# Altium schematic symbol library Conn Breakaway Single Row.SchLib: 40 symbols
Pins are listed as number, name and electrical type; pins without a type are passive.

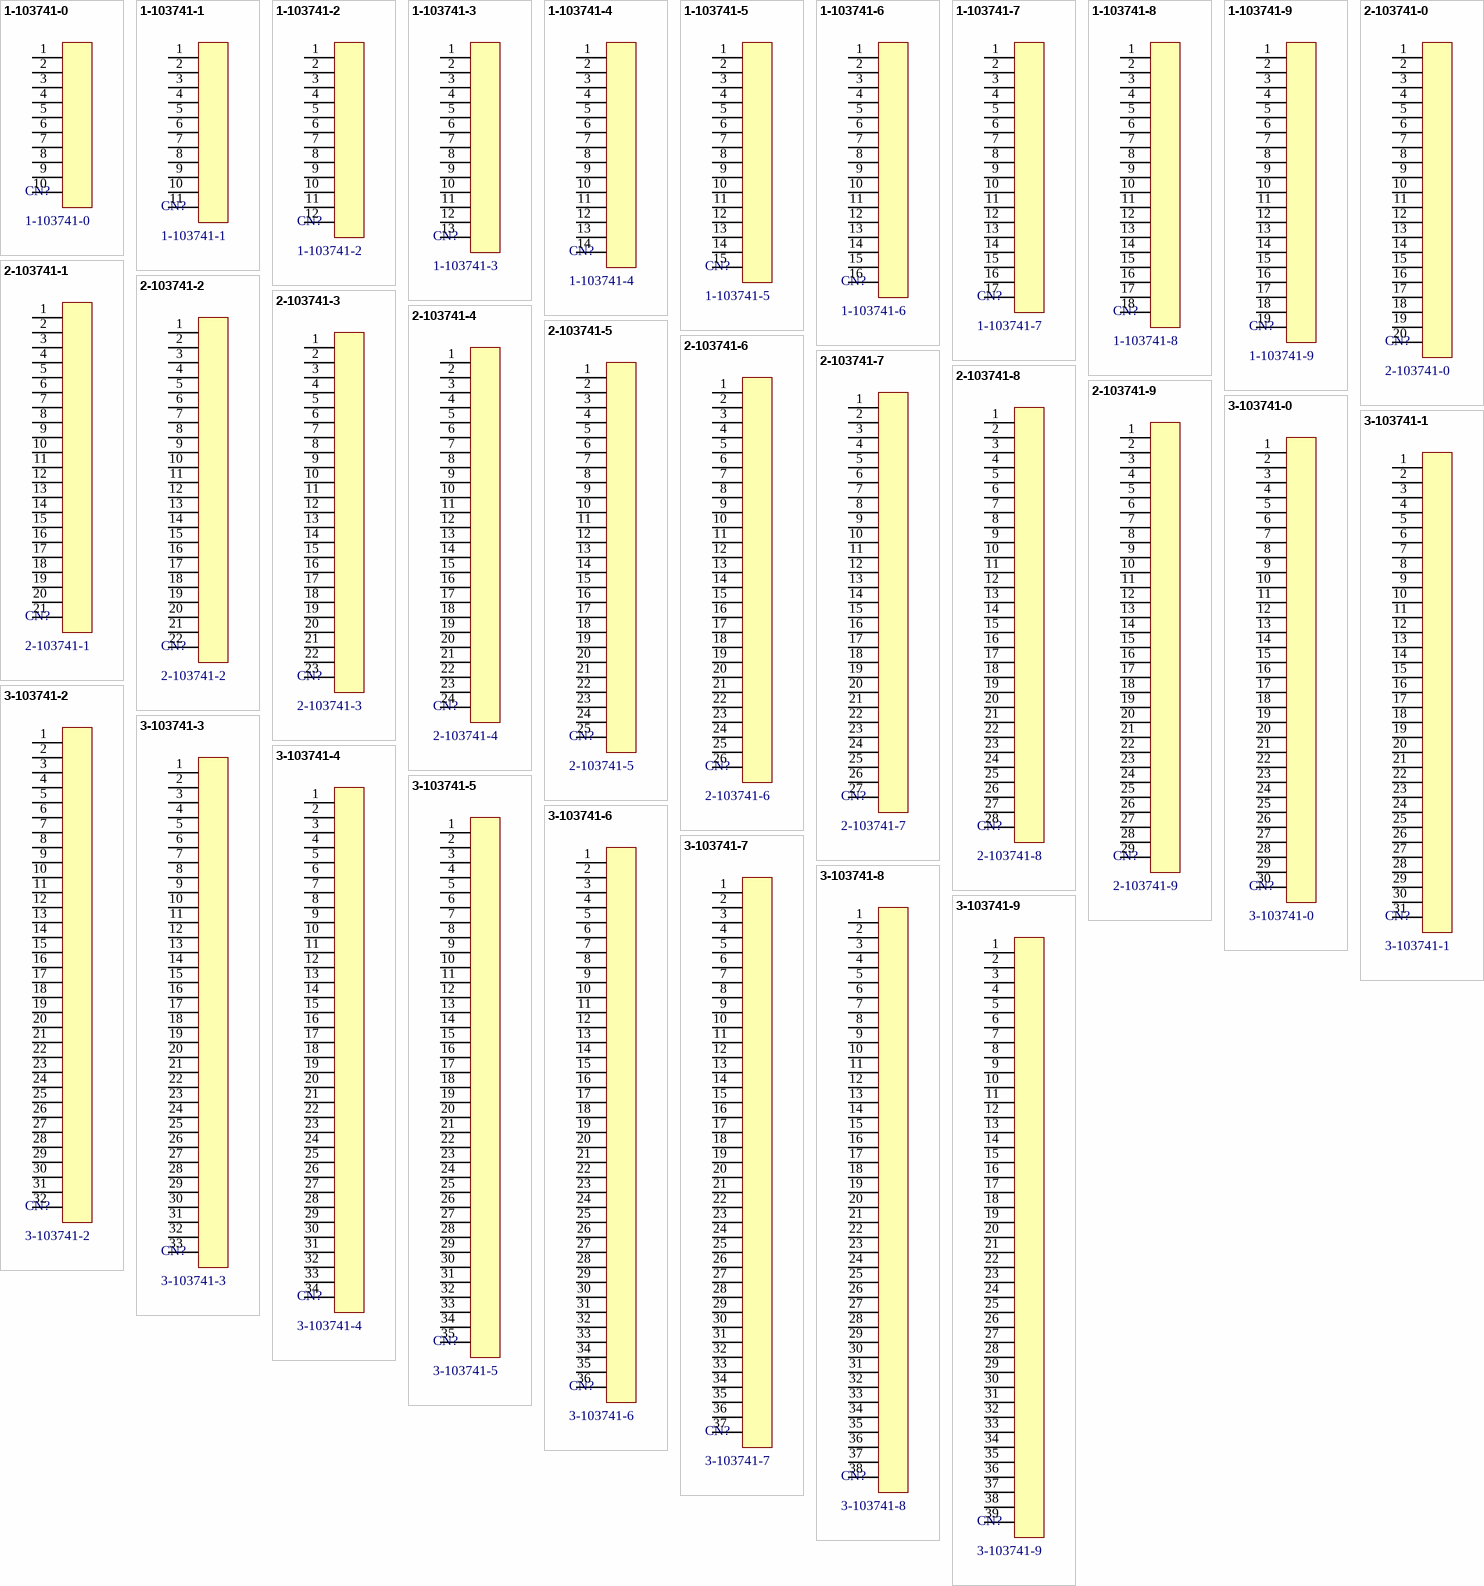
[diagram p0: symbols 1-103741-0 to 3-103741-9]

## 1-103741-0
designator CN?
CONN Breakaway Single Row
footprint 1-103741-0 (CONN Breakaway Single Row)
pins: 1, 2, 3, 4, 5, 6, 7, 8, 9, 10

## 1-103741-1
designator CN?
CONN Breakaway Single Row
footprint 1-103741-1 (CONN Breakaway Single Row)
pins: 1, 2, 3, 4, 5, 6, 7, 8, 9, 10, 11

## 1-103741-2
designator CN?
CONN Breakaway Single Row
footprint 1-103741-2 (CONN Breakaway Single Row)
pins: 1, 2, 3, 4, 5, 6, 7, 8, 9, 10, 11, 12

## 1-103741-3
designator CN?
CONN Breakaway Single Row
footprint 1-103741-3 (CONN Breakaway Single Row)
pins: 1, 2, 3, 4, 5, 6, 7, 8, 9, 10, 11, 12, 13

## 1-103741-4
designator CN?
CONN Breakaway Single Row
footprint 1-103741-4 (CONN Breakaway Single Row)
pins: 1, 2, 3, 4, 5, 6, 7, 8, 9, 10, 11, 12, 13, 14

## 1-103741-5
designator CN?
CONN Breakaway Single Row
footprint 1-103741-5 (CONN Breakaway Single Row)
pins: 1, 2, 3, 4, 5, 6, 7, 8, 9, 10, 11, 12, 13, 14, 15

## 1-103741-6
designator CN?
CONN Breakaway Single Row
footprint 1-103741-6 (CONN Breakaway Single Row)
pins: 1, 2, 3, 4, 5, 6, 7, 8, 9, 10, 11, 12, 13, 14, 15, 16

## 1-103741-7
designator CN?
CONN Breakaway Single Row
footprint 1-103741-7 (CONN Breakaway Single Row)
pins: 1, 2, 3, 4, 5, 6, 7, 8, 9, 10, 11, 12, 13, 14, 15, 16, 17

## 1-103741-8
designator CN?
CONN Breakaway Single Row
footprint 1-103741-8 (CONN Breakaway Single Row)
pins: 1, 2, 3, 4, 5, 6, 7, 8, 9, 10, 11, 12, 13, 14, 15, 16, 17, 18

## 1-103741-9
designator CN?
CONN Breakaway Single Row
footprint 1-103741-9 (CONN Breakaway Single Row)
pins: 1, 2, 3, 4, 5, 6, 7, 8, 9, 10, 11, 12, 13, 14, 15, 16, 17, 18, 19

## 2-103741-0
designator CN?
CONN Breakaway Single Row
footprint 2-103741-0 (CONN Breakaway Single Row)
pins: 1, 2, 3, 4, 5, 6, 7, 8, 9, 10, 11, 12, 13, 14, 15, 16, 17, 18, 19, 20

## 2-103741-1
designator CN?
CONN Breakaway Single Row
footprint 2-103741-1 (CONN Breakaway Single Row)
pins: 1, 2, 3, 4, 5, 6, 7, 8, 9, 10, 11, 12, 13, 14, 15, 16, 17, 18, 19, 20, 21

## 2-103741-2
designator CN?
CONN Breakaway Single Row
footprint 2-103741-2 (CONN Breakaway Single Row)
pins: 1, 2, 3, 4, 5, 6, 7, 8, 9, 10, 11, 12, 13, 14, 15, 16, 17, 18, 19, 20, 21, 22

## 2-103741-3
designator CN?
CONN Breakaway Single Row
footprint 2-103741-3 (CONN Breakaway Single Row)
pins: 1, 2, 3, 4, 5, 6, 7, 8, 9, 10, 11, 12, 13, 14, 15, 16, 17, 18, 19, 20, 21, 22, 23

## 2-103741-4
designator CN?
CONN Breakaway Single Row
footprint 2-103741-4 (CONN Breakaway Single Row)
pins: 1, 2, 3, 4, 5, 6, 7, 8, 9, 10, 11, 12, 13, 14, 15, 16, 17, 18, 19, 20, 21, 22, 23, 24

## 2-103741-5
designator CN?
CONN Breakaway Single Row
footprint 2-103741-5 (CONN Breakaway Single Row)
pins: 1, 2, 3, 4, 5, 6, 7, 8, 9, 10, 11, 12, 13, 14, 15, 16, 17, 18, 19, 20, 21, 22, 23, 24, 25

## 2-103741-6
designator CN?
CONN Breakaway Single Row
footprint 2-103741-6 (CONN Breakaway Single Row)
pins: 1, 2, 3, 4, 5, 6, 7, 8, 9, 10, 11, 12, 13, 14, 15, 16, 17, 18, 19, 20, 21, 22, 23, 24, 25, 26

## 2-103741-7
designator CN?
CONN Breakaway Single Row
footprint 2-103741-7 (CONN Breakaway Single Row)
pins: 1, 2, 3, 4, 5, 6, 7, 8, 9, 10, 11, 12, 13, 14, 15, 16, 17, 18, 19, 20, 21, 22, 23, 24, 25, 26, 27

## 2-103741-8
designator CN?
CONN Breakaway Single Row
footprint 2-103741-8 (CONN Breakaway Single Row)
pins: 1, 2, 3, 4, 5, 6, 7, 8, 9, 10, 11, 12, 13, 14, 15, 16, 17, 18, 19, 20, 21, 22, 23, 24, 25, 26, 27, 28

## 2-103741-9
designator CN?
CONN Breakaway Single Row
footprint 2-103741-9 (CONN Breakaway Single Row)
pins: 1, 2, 3, 4, 5, 6, 7, 8, 9, 10, 11, 12, 13, 14, 15, 16, 17, 18, 19, 20, 21, 22, 23, 24, 25, 26, 27, 28, 29

## 3-103741-0
designator CN?
CONN Breakaway Single Row
footprint 3-103741-0 (CONN Breakaway Single Row)
pins: 1, 2, 3, 4, 5, 6, 7, 8, 9, 10, 11, 12, 13, 14, 15, 16, 17, 18, 19, 20, 21, 22, 23, 24, 25, 26, 27, 28, 29, 30

## 3-103741-1
designator CN?
CONN Breakaway Single Row
footprint 3-103741-1 (CONN Breakaway Single Row)
pins: 1, 2, 3, 4, 5, 6, 7, 8, 9, 10, 11, 12, 13, 14, 15, 16, 17, 18, 19, 20, 21, 22, 23, 24, 25, 26, 27, 28, 29, 30, 31

## 3-103741-2
designator CN?
CONN Breakaway Single Row
footprint 3-103741-2 (CONN Breakaway Single Row)
pins: 1, 2, 3, 4, 5, 6, 7, 8, 9, 10, 11, 12, 13, 14, 15, 16, 17, 18, 19, 20, 21, 22, 23, 24, 25, 26, 27, 28, 29, 30, 31, 32

## 3-103741-3
designator CN?
CONN Breakaway Single Row
footprint 3-103741-3 (CONN Breakaway Single Row)
pins: 1, 2, 3, 4, 5, 6, 7, 8, 9, 10, 11, 12, 13, 14, 15, 16, 17, 18, 19, 20, 21, 22, 23, 24, 25, 26, 27, 28, 29, 30, 31, 32, 33

## 3-103741-4
designator CN?
CONN Breakaway Single Row
footprint 3-103741-4 (CONN Breakaway Single Row)
pins: 1, 2, 3, 4, 5, 6, 7, 8, 9, 10, 11, 12, 13, 14, 15, 16, 17, 18, 19, 20, 21, 22, 23, 24, 25, 26, 27, 28, 29, 30, 31, 32, 33, 34

## 3-103741-5
designator CN?
CONN Breakaway Single Row
footprint 3-103741-5 (CONN Breakaway Single Row)
pins: 1, 2, 3, 4, 5, 6, 7, 8, 9, 10, 11, 12, 13, 14, 15, 16, 17, 18, 19, 20, 21, 22, 23, 24, 25, 26, 27, 28, 29, 30, 31, 32, 33, 34, 35

## 3-103741-6
designator CN?
CONN Breakaway Single Row
footprint 3-103741-6 (CONN Breakaway Single Row)
pins: 1, 2, 3, 4, 5, 6, 7, 8, 9, 10, 11, 12, 13, 14, 15, 16, 17, 18, 19, 20, 21, 22, 23, 24, 25, 26, 27, 28, 29, 30, 31, 32, 33, 34, 35, 36

## 3-103741-7
designator CN?
CONN Breakaway Single Row
footprint 3-103741-7 (CONN Breakaway Single Row)
pins: 1, 2, 3, 4, 5, 6, 7, 8, 9, 10, 11, 12, 13, 14, 15, 16, 17, 18, 19, 20, 21, 22, 23, 24, 25, 26, 27, 28, 29, 30, 31, 32, 33, 34, 35, 36, 37

## 3-103741-8
designator CN?
CONN Breakaway Single Row
footprint 3-103741-8 (CONN Breakaway Single Row)
pins: 1, 2, 3, 4, 5, 6, 7, 8, 9, 10, 11, 12, 13, 14, 15, 16, 17, 18, 19, 20, 21, 22, 23, 24, 25, 26, 27, 28, 29, 30, 31, 32, 33, 34, 35, 36, 37, 38

## 3-103741-9
designator CN?
CONN Breakaway Single Row
footprint 3-103741-9 (CONN Breakaway Single Row)
pins: 1, 2, 3, 4, 5, 6, 7, 8, 9, 10, 11, 12, 13, 14, 15, 16, 17, 18, 19, 20, 21, 22, 23, 24, 25, 26, 27, 28, 29, 30, 31, 32, 33, 34, 35, 36, 37, 38, 39

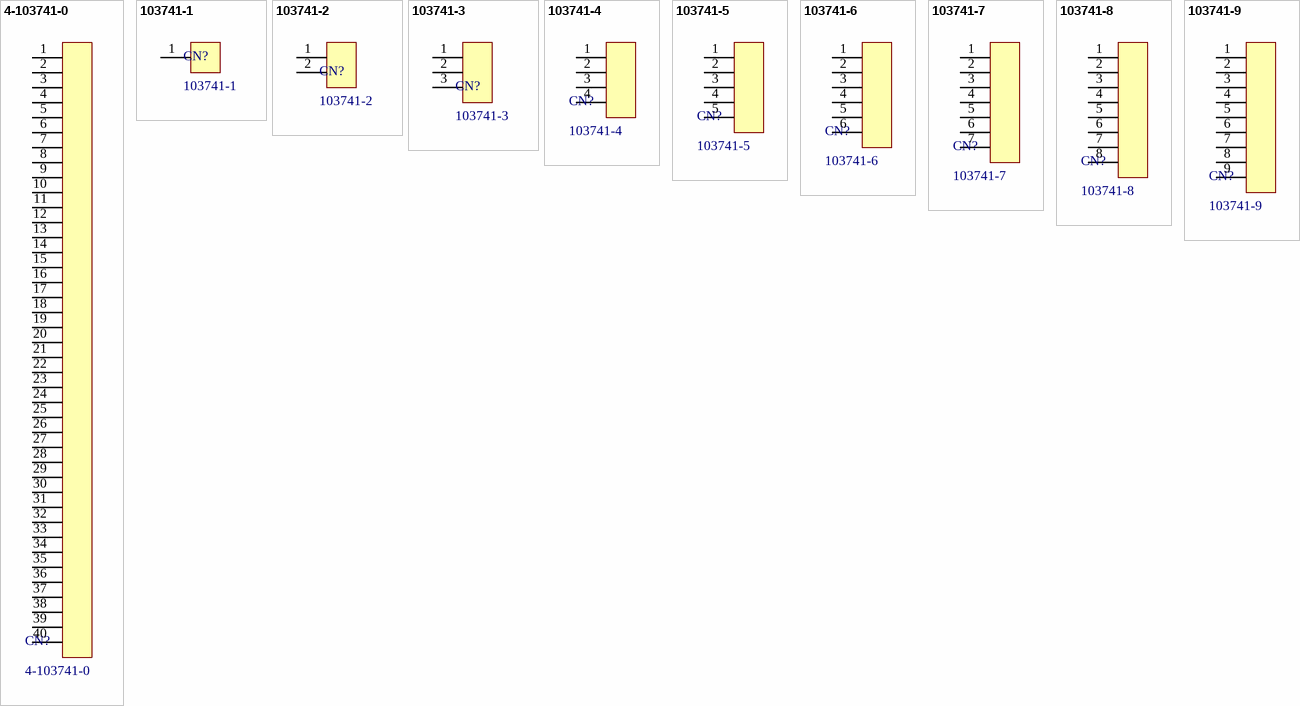
[diagram p1: symbols 4-103741-0 to 103741-9]

## 4-103741-0
designator CN?
CONN Breakaway Single Row
footprint 4-103741-0 (CONN Breakaway Single Row)
pins: 1, 2, 3, 4, 5, 6, 7, 8, 9, 10, 11, 12, 13, 14, 15, 16, 17, 18, 19, 20, 21, 22, 23, 24, 25, 26, 27, 28, 29, 30, 31, 32, 33, 34, 35, 36, 37, 38, 39, 40

## 103741-1
designator CN?
CONN Breakaway Single Row
footprint 103741-1 (CONN Breakaway Single Row)
pins: 1

## 103741-2
designator CN?
CONN Breakaway Single Row
footprint 103741-2 (CONN Breakaway Single Row)
pins: 1, 2

## 103741-3
designator CN?
CONN Breakaway Single Row
footprint 103741-3 (CONN Breakaway Single Row)
pins: 1, 2, 3

## 103741-4
designator CN?
CONN Breakaway Single Row
footprint 103741-4 (CONN Breakaway Single Row)
pins: 1, 2, 3, 4

## 103741-5
designator CN?
CONN Breakaway Single Row
footprint 103741-5 (CONN Breakaway Single Row)
pins: 1, 2, 3, 4, 5

## 103741-6
designator CN?
CONN Breakaway Single Row
footprint 103741-6 (CONN Breakaway Single Row)
pins: 1, 2, 3, 4, 5, 6

## 103741-7
designator CN?
CONN Breakaway Single Row
footprint 103741-7 (CONN Breakaway Single Row)
pins: 1, 2, 3, 4, 5, 6, 7

## 103741-8
designator CN?
CONN Breakaway Single Row
footprint 103741-8 (CONN Breakaway Single Row)
pins: 1, 2, 3, 4, 5, 6, 7, 8

## 103741-9
designator CN?
CONN Breakaway Single Row
footprint 103741-9 (CONN Breakaway Single Row)
pins: 1, 2, 3, 4, 5, 6, 7, 8, 9